# EAGLE library part MCP4921 (library kvitekp)
MCP4821 Single 12bit SPI DAC with external VREF
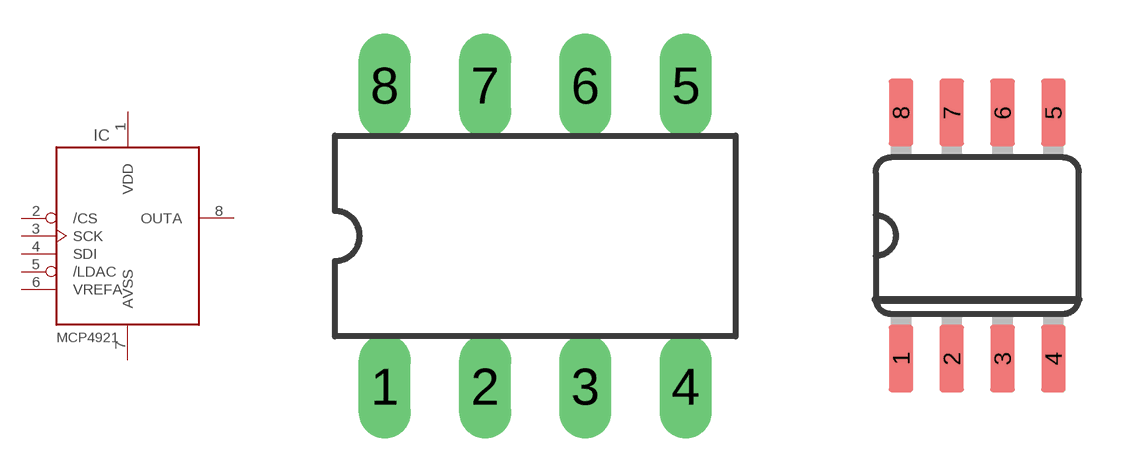
[diagram p14: symbol with the pads of DIL8; footprints DIL8, SO08]

Designator prefix IC

## MCP4921  [DIL8]
1  VDD  sup
2  /CS  in
3  SCK  in
4  SDI  in
5  /LDAC  in
6  VREFA  in
7  AVSS  sup
8  OUTA  out

## MCP4921SO08  [SO08]
Pads as for DIL8

## Footprint DIL8 (pad centres in mm)
Dual In Line package type P
drill 0.813 long: 1 -3.81,-3.81; 2 -1.27,-3.81; 3 1.27,-3.81; 4 3.81,-3.81; 5 3.81,3.81; 6 1.27,3.81; 7 -1.27,3.81; 8 -3.81,3.81

## Footprint SO08 (pad centres in mm)
smd 0.61 x 1.676: 1 -1.905,-3.073; 2 -0.635,-3.073; 3 0.635,-3.073; 4 1.905,-3.073; 5 1.905,3.073; 6 0.635,3.073; 7 -0.635,3.073; 8 -1.905,3.073